# EAGLE library part RA8 (library TinyNES_Library)
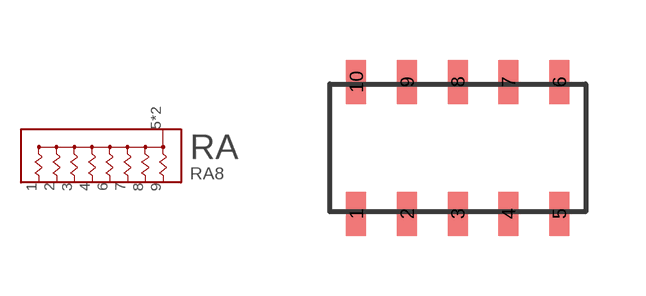
[diagram p5: symbol with the pads of EXBA10P; footprint EXBA10P]

Designator prefix RA

## RA8  [EXBA10P]
1  1
2  2
3  3
4  4
5  COM
6  5
7  6
8  7
9  8
10  COM

## Footprint EXBA10P (pad centres in mm)
smd 0.5 x 1.1: 1 -2.54,-1.65; 2 -1.27,-1.65; 3 0,-1.65; 4 1.27,-1.65; 5 2.54,-1.65; 6 2.54,1.65; 7 1.27,1.65; 8 0,1.65; 9 -1.27,1.65; 10 -2.54,1.65